# Altium schematic symbol library Gan_cuk converter.SchLib: 44 symbols
Pins are listed as number, name and electrical type; pins without a type are passive.

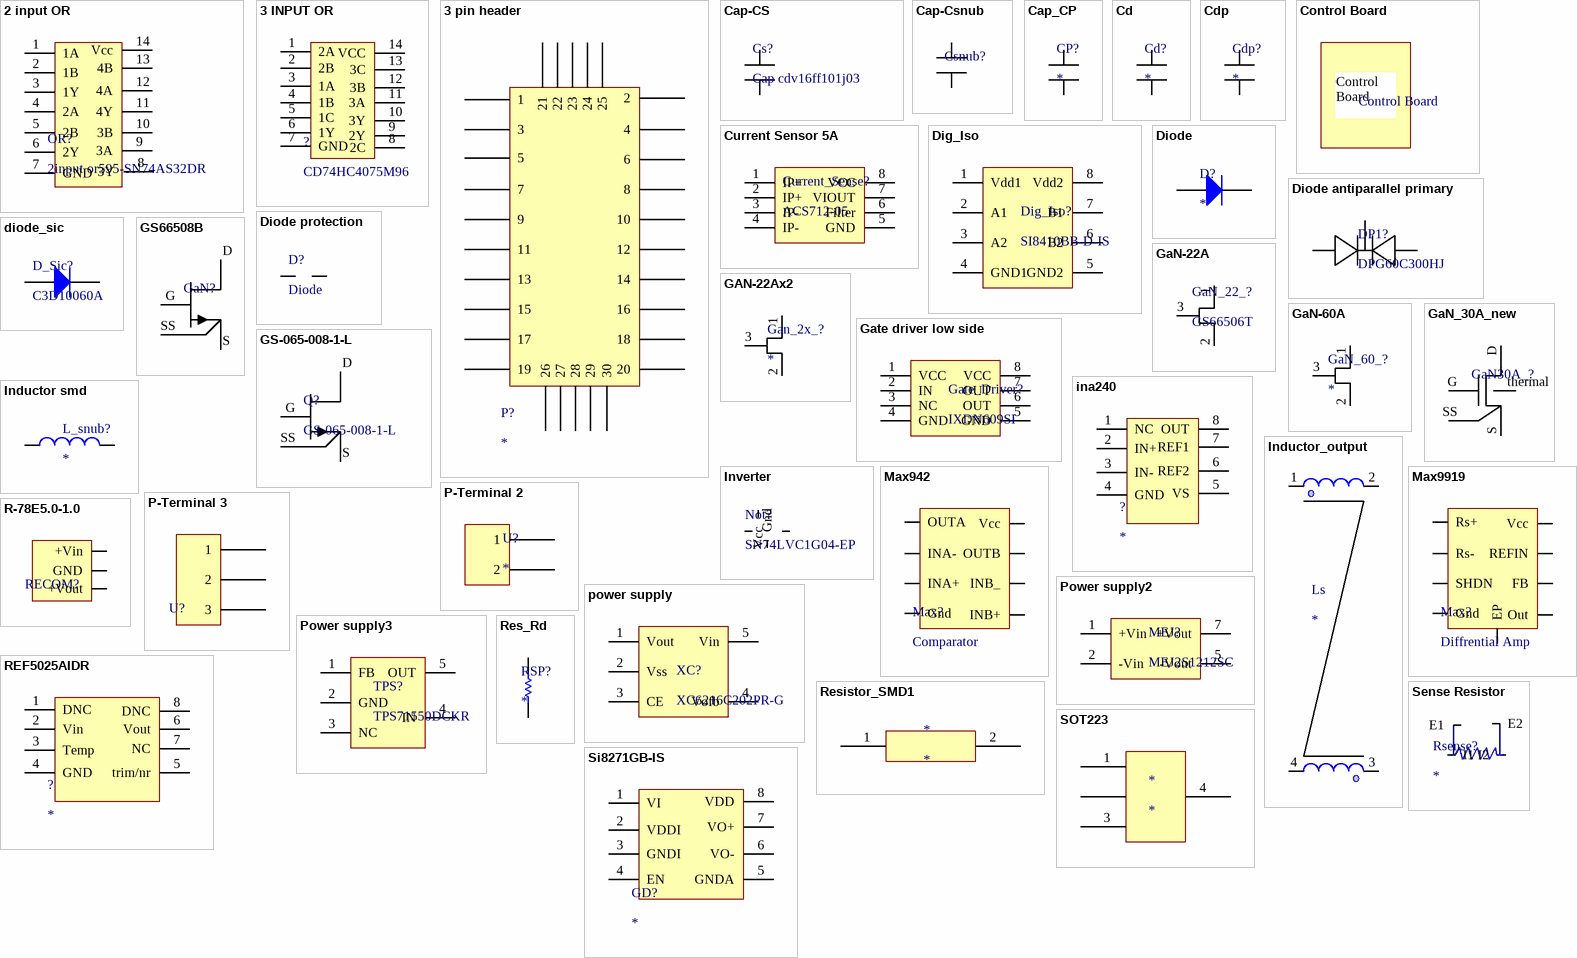
[diagram p0: symbols 2 input OR to SOT223]

## 2 input OR
designator OR?, comment 2input or595-SN74AS32DR
footprint 2inputor
pins: 1 1A, 2 1B, 3 1Y, 4 2A, 5 2B, 6 2Y, 7 GND, 8 3Y, 9 3A, 10 3B, 11 4Y, 12 4A, 13 4B, 14 Vcc

## 3 INPUT OR
designator ?, comment CD74HC4075M96
3-INPUT OR595-CD74HC4075M96
footprint 3PIN OR GATE
pins: 1 2A, 2 2B, 3 1A, 4 1B, 5 1C, 6 1Y, 7 GND, 8 2C, 9 2Y, 10 3Y, 11 3A, 12 3B, 13 3C, 14 VCC

## 3 pin header
designator P?
3 pin header
footprint 3 row header
pins: 1, 2, 3, 4, 5, 6, 7, 8, 9, 10, 11, 12, 13, 14, 15, 16, 17, 18, 19, 20, 21, 22, 23, 24, 25, 26, 27, 28, 29, 30

## Cap-CS
designator Cs?, comment Cap cdv16ff101j03
footprint Cap-Cs
pins: 1, 2

## Cap-Csnub
designator Csnub?, comment Cap DPPM10S22K-F  (value not drawn)
footprint Cap-Csnub
pins: 1, 2

## Cap_CP
designator CP?
footprint Cap_cp
footprint Cap_cp - small
pins: 1, 2

## Cd
designator Cd?
footprint Cd
pins: 1, 2

## Cdp
designator Cdp?
footprint Cdp
pins: 1, 2

## Control Board
designator ?
footprint Control Board

## Current Sensor 5A
designator Current_Sense?, comment ACS712-05
footprint SOIC-8
pins: 1 IP+, 2 IP+, 3 IP-, 4 IP-, 5 GND, 6 Filter, 7 VIOUT, 8 VCC

## Dig_Iso
designator Dig_Iso?, comment SI8410BB-D-IS
footprint SOIC-8
pins: 1 Vdd1, 2 A1, 3 A2, 4 GND1, 5 GND2, 6 B2, 7 B1, 8 Vdd2

## Diode
designator D?
VS-4ESH02HM3
footprint TO-277A (Diode)
pins: 1 A, 2 K

## Diode antiparallel primary
designator DP1?, comment DPG60C300HJ
footprint Diode antiparallel
pins: 1, 2, 3

## Diode protection
designator D?, comment Diode
RSX205LAM30TR
footprint Diode_protection (SODFL, 2-Leads, Body 2.50x4.70mm, IPC Medium Density)
pins: 1 +, 2 +

## diode_sic
designator D_Sic?, comment C3D10060A
footprint diode_sic
pins: 1 K, 3 A

## GaN-22A
designator GaN_22_?, comment GS66506T
footprint GS66506t with heat sink
pins: 1, 2, 3

## GAN-22Ax2
designator Gan_2x_?
footprint 22A gan parallel
pins: 1, 2, 3

## GaN-60A
designator GaN_60_?
footprint GS66560T with heat dissipation
pins: 1, 2, 3

## GaN_30A_new
designator GaN30A_?
footprint GaN_30A_new
pins: D 3, G 0, S 2, SS 1, thermal 4

## Gate driver low side
designator Gate_Driver?, comment IXDN609SI
footprint Gate driver _low side
pins: 1 VCC, 2 IN, 3 NC, 4 GND, 5 GND, 6 OUT, 7 OUT, 8 VCC

## GS66508B
designator GaN?  (value not drawn)
footprint GS66508B (30A, 650V bottom side cooled)
pins: D, G, S, SS

## GS-065-008-1-L
designator Q?
GAN TRANS E-MODE 650V 8A
footprint GS-065-008-1-L (GAN TRANS E-MODE 650V 8A)
pins: D, G, S, SS

## ina240
designator ?
footprint INA240 (TSOP, 8-Leads, Body 3.00x4.40mm, Pitch 0.65mm, IPC Medium Density)
pins: 1 NC, 2 IN+, 3 IN-, 4 GND, 5 VS, 6 REF2, 7 REF1, 8 OUT

## Inductor smd
designator L_snub?
footprint Inductor surface mount
pins: 1 +, 2 -

## Inductor_output
designator Ls
footprint Inductor output
pins: 1 +, 2 -, 3 -, 4 +

## Inverter
designator Not?, comment SN74LVC1G04-EP
footprint Inverter (SN74LVC1G04MDBVREP)
pins: 2 A, 3 Gnd, 4 Y, 5 Vcc

## Max942
designator Max?, comment Comparator
MAX942ESA+
footprint SOIC 8_ no EP
pins: 1 OUTA, 2 INA-, 3 INA+, 4 Gnd, 5 INB+, 6 INB_, 7 OUTB, 8 Vcc

## Max9919
designator Max?, comment Diffrential Amp
MAX9919NASA+
footprint SOIC127P600X168_HS-9N (MAX9919NASA+)
pins: 1 Rs+, 2 Rs-, 3 SHDN, 4 Gnd, 5 Out, 6 FB, 7 REFIN, 8 Vcc, 9 EP

## P-Terminal 2
designator U?
footprint P-Terminal 2
pins: 1, 2

## P-Terminal 3
designator U?, comment Vin  (value not drawn)
footprint P-terminal 3
pins: 1, 2, 3

## power supply
designator XC?, comment XC6216C202PR-G
footprint SOT-89-5
pins: 1 Vout, 2 Vss, 3 CE, 4 Vofb, 5 Vin

## Power supply2
designator MEJ?, comment MEJ2S1212SC
footprint MEJ2
pins: 1 +Vin, 2 -Vin, 5 -Vout, 7 +Vout

## Power supply3
designator TPS?, comment TPS71550DCKR
footprint power supply tps
pins: 1 FB, 2 GND, 3 NC, 4 IN, 5 OUT

## R-78E5.0-1.0
designator RECOM?, comment 5V supply  (value not drawn)
R-78E5.0-1.0
footprint R-78E5.0-1.0
pins: 1 +Vin, 2 GND, 3 +Vout

## REF5025AIDR
designator ?
footprint REF52.5
pins: 1 DNC, 2 Vin, 3 Temp, 4 GND, 5 trim/nr, 6 Vout, 7 NC, 8 DNC

## Res_Rd
designator RSP?
footprint Res-RS
pins: 1, 2

## Resistor_SMD1
designator *
footprint Resistor_SMD1 (RES SMD 392 OHM 1% 1/2W 1206)
pins: 1, 2

## Sense Resistor
designator Rsense?
footprint Sense resistor (WSL3637)
pins: 1 I1, 2 I2, 3 E1, 4 E2

## Si8271GB-IS
designator GD?
footprint Si8271
pins: 1 VI, 2 VDDI, 3 GNDI, 4 EN, 5 GNDA, 6 VO-, 7 VO+, 8 VDD

## SOT223
designator *
footprint SOT-223
pins: 1, 2, 3, 4

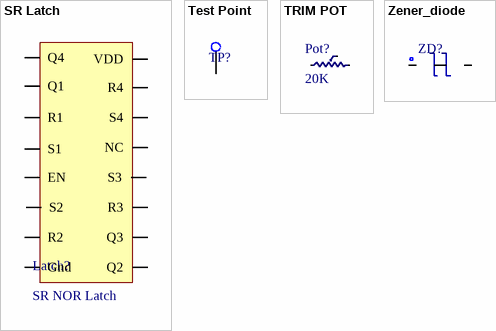
[diagram p1: symbols SR Latch to Zener_diode]

## SR Latch
designator Latch?, comment SR NOR Latch
CD4043BDR
footprint SR latch (SOIC 16)
pins: 1 Q4, 2 Q1, 3 R1, 4 S1, 5 EN, 6 S2, 7 R2, 8 Gnd, 9 Q2, 10 Q3, 11 R3, 12 S3, 13 NC, 14 S4, 15 R4, 16 VDD

## Test Point
designator TP?  (value not drawn)
footprint Test Point
pins: 1 TP?

## TRIM POT
designator Pot?, comment 20K
3296W-1-253LF
footprint Pot (3296W-1-253LF)
pins: 1, 2, 3

## Zener_diode
designator ZD?, comment 8.2 v  (value not drawn)
DZ23C8V2-7-F
footprint Zener Diode
pins: 1, 2, 3